# Altium footprint library VERSA-PAC.PcbLib: 2 footprints
Each footprint in its own frame and in the unit in brackets; x right, y up, seen from the top. Pads: shape width x height; smd on the part's side, far side on the other; paste and mask are expansions set on the pad; w line width, h text height; cw(c..) or ccw(c..) is an arc to the next point about the centre after c.
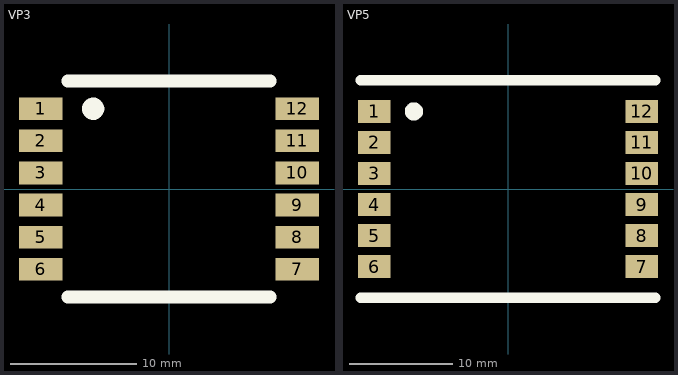
[diagram p0: the footprints below, top view; thin cyan lines are the x and y axes]

## VP3 [mm] "VERSA-PAC? Inductors and Transformers (Surface Mount)"
height 8.4
pads (12):
  rect 3.43x1.79 smd: 1(-10.155,6.35) 2(-10.155,3.81) 3(-10.155,1.27) 4(-10.155,-1.27) 5(-10.155,-3.81) 6(-10.155,-6.35) 7(10.155,-6.35) 8(10.155,-3.81) 9(10.155,-1.27) 10(10.155,1.27) 11(10.155,3.81) 12(10.155,6.35)
Top Overlay:
  circle w1: c-6,6.35 r0.381
  lines w1: -8,-8.55 8,-8.55 ; -8,8.55 8,8.55
3D body: height 8.4, standoff 0, extent -8,-8.55 8,8.55

## VP5 [mm] "VERSA-PAC? Inductors and Transformers (Surface Mount)"
height 10.8
pads (12):
  rect 3.15x2.25 smd: 1(-12.925,7.5) 2(-12.925,4.5) 3(-12.925,1.5) 4(-12.925,-1.5) 5(-12.925,-4.5) 6(-12.925,-7.5) 7(12.925,-7.5) 8(12.925,-4.5) 9(12.925,-1.5) 10(12.925,1.5) 11(12.925,4.5) 12(12.925,7.5)
Top Overlay:
  circle w1: c-9.1,7.5 r0.381
  lines w1: -14.25,-10.5 14.25,-10.5 ; -14.25,10.5 14.25,10.5
3D body: height 10.8, standoff 0, extent -10.5,-10.5 10.5,10.5